# EAGLE library part AAT3125 (library MAX9812)
AAT3125 USB OTG 5V Charge Pump General Description: The AAT3125 USB On-the-Go (OTG) Charge Pump is a member of AnalogicTech's Total Power Management IC product family. The device integrates a high efficiency 1.5x fractional 100mA Regulated Charge Pump for supplying VBUS with the additional functions required for OTG-devices (formerly known as Dual Role Devices). Four voltage detectors monitor VBUS and a current source, dedicated for VBUS pulsing, are provided for compliance with Session Request Protocol (SRP) as defined by the USB OTG Supplement. The charge pump section uses a high efficiency fractional topology, with a high frequency 750kHz switching speed which enables the use of small capacitors less than 3.3µF. The AAT3125 features extremely low quiescent current to extend battery run time. Additionally, the device integrates protection features such as undervoltage lockout, output short circuit and thermal protection. The AAT3125 is available in a surface mount QFN44-16 package, and is rated from -40°C to 85°C. Features: Regulated Fractional Charge Pump 100 mA Output Current Reverse Load Protection Power Good Flag SRP detection Flag SRP Ready Flag Output Short Circuit and Thermal Protection Under Voltage Protection Less than 1µA consumed while disabled Designed to allow operation with output capacitance as low as 3.3µF. 16-pin 4x4mm QFN package Applications: Cell Phones Hand Held Computers PDAs Please send any comments to: messi@users.sourceforge.net
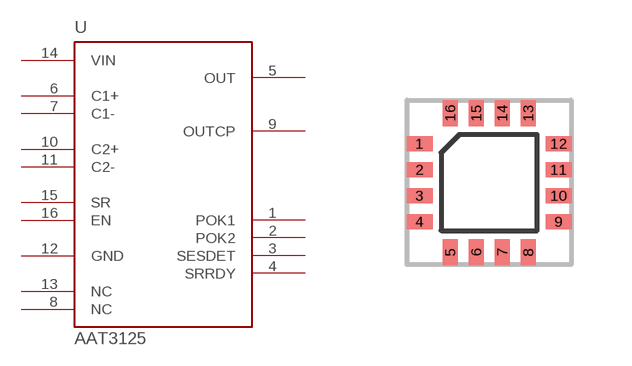
[diagram p1: symbol with the pads of QFN44-16; footprint QFN44-16]

Designator prefix U

## AAT3125  [QFN44-16]
1  POK1  out
2  POK2  out
3  SESDET  out
4  SRRDY  out
5  OUT  out
6  C1+
7  C1-
8  NC  nc
9  OUTCP  out
10  C2+
11  C2-
12  GND  pwr
13  NC  nc
14  VIN  pwr
15  SR  in
16  EN  in

## Footprint QFN44-16 (pad centres in mm)
Package for the Analogic Tech AAT3125 USB OTG 5V Charge Pump
smd 0.65 x 0.38: 1 -1.74,0.975; 2 -1.74,0.325; 3 -1.74,-0.325; 4 -1.74,-0.975; 9 1.74,-0.975; 10 1.74,-0.325; 11 1.74,0.325; 12 1.74,0.975
smd 0.38 x 0.65: 5 -0.975,-1.74; 6 -0.325,-1.74; 7 0.325,-1.74; 8 0.975,-1.74; 13 0.975,1.74; 14 0.325,1.74; 15 -0.325,1.74; 16 -0.975,1.74